# Altium integrated library CR0402AFX-1002GAS.IntLib: 1 symbol
Pins are listed as number, name and electrical type; pins without a type are passive.

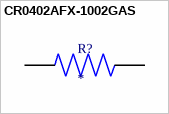
[diagram p0: symbol CR0402AFX-1002GAS]

## CR0402AFX-1002GAS
designator R?
Resistor, AS 0402 10k 1% 63mW TC100 | Bourns CR0402AFX-1002GAS; SnapEDA_Link: https://www.snapeda.com/parts/CR0402AFX-1002GAS/Bourns/view-part/?ref=snap; Package: 0402-2 Bourns; Value: *; MF: Bourns; MP: CR0402AFX-1002GAS; Check_prices: https://www.snapeda.com/parts/CR0402AFX-1002GAS/Bourns/view-part/?ref=eda
footprint RESC1005X37N
pins: 1, 2